# Altium footprint library MOSFET.PcbLib: 1 footprints
Each footprint in its own frame and in the unit in brackets; x right, y up, seen from the top. Pads: shape width x height; smd on the part's side, far side on the other; paste and mask are expansions set on the pad; w line width, h text height; cw(c..) or ccw(c..) is an arc to the next point about the centre after c.
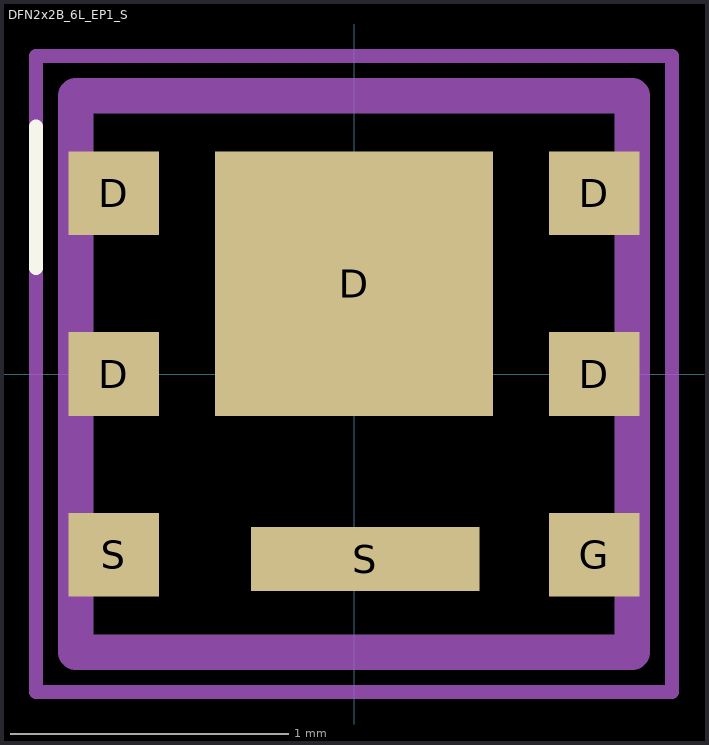
[diagram p0: the footprint, top view; thin cyan lines are the x and y axes]

## DFN2x2B_6L_EP1_S [mm]
height 0.6
pads (8):
  rect 0.325x0.3 smd mask+0.05: D(-0.863,0) D(-0.863,0.65) D(0.863,0) D(0.863,0.65) G(0.863,-0.65) S(-0.863,-0.65)
  rect 1x0.95 smd paste-1 mask+0.05: D(0,0.325)
  rect 0.82x0.23 smd mask+0.05: S(0.04,-0.665)
Top Overlay:
  lines w0.05: -1.143,0.381 -1.143,0.889
Top Paste:
  region: 0.316,0.025 -0.316,0.025 -0.316,0.625 0.316,0.625
Mechanical 13:
  lines w0.05: -1.143,0.381 -1.143,0.889
  lines w0.127: -1,-1 1,-1 1,1 -1,1 -1,-1
Mechanical 15:
  lines w0.05: -1.143,-1.143 1.143,-1.143 1.143,1.143 -1.143,1.143 -1.143,-1.143